# Altium footprint library 8A34001E-000AJG8.PcbLib: 3 footprints
Each footprint in its own frame and in the unit in brackets; x right, y up, seen from the top. Pads: shape width x height; smd on the part's side, far side on the other; paste and mask are expansions set on the pad; w line width, h text height; cw(c..) or ccw(c..) is an arc to the next point about the centre after c.
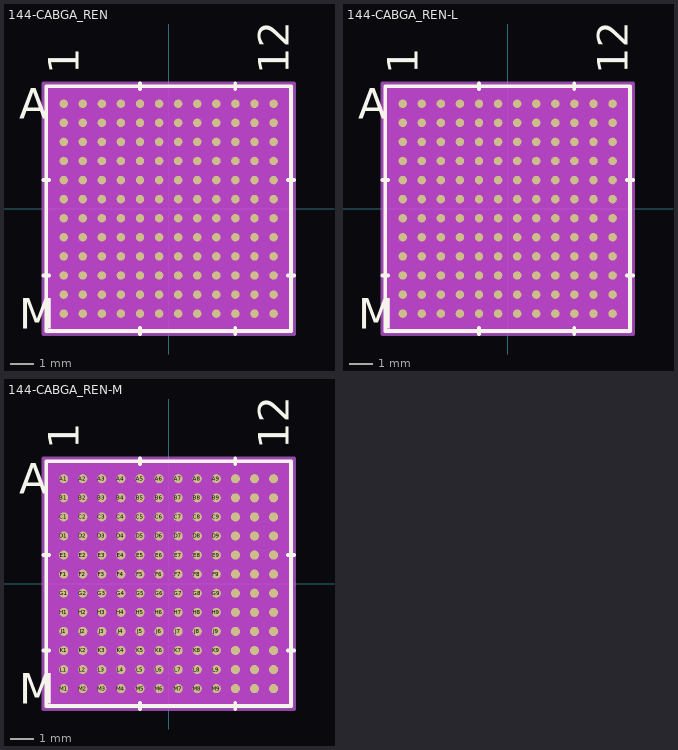
[diagram p0: the footprints below, top view; thin cyan lines are the x and y axes]

## 144-CABGA_REN [mil]
pads (144):
  round 14 smd paste+0 mask+0: A1(-173.23,173.25) A2(-141.73,173.25) A3(-110.24,173.25) A4(-78.74,173.25) A5(-47.24,173.25) A6(-15.75,173.25) A7(15.75,173.25) A8(47.24,173.25) A9(78.74,173.25) A10(110.24,173.25) A11(141.73,173.25) A12(173.23,173.25) B1(-173.23,141.75) B2(-141.73,141.75) B3(-110.24,141.75) B4(-78.74,141.75) B5(-47.24,141.75) B6(-15.75,141.75) B7(15.75,141.75) B8(47.24,141.75) B9(78.74,141.75) B10(110.24,141.75) B11(141.73,141.75) B12(173.23,141.75) C1(-173.23,110.25) C2(-141.73,110.25) C3(-110.24,110.25) C4(-78.74,110.25) C5(-47.24,110.25) C6(-15.75,110.25) C7(15.75,110.25) C8(47.24,110.25) C9(78.74,110.25) C10(110.24,110.25) C11(141.73,110.25) C12(173.23,110.25) D1(-173.23,78.75) D2(-141.73,78.75) D3(-110.24,78.75) D4(-78.74,78.75) D5(-47.24,78.75) D6(-15.75,78.75) D7(15.75,78.75) D8(47.24,78.75) D9(78.74,78.75) D10(110.24,78.75) D11(141.73,78.75) D12(173.23,78.75) E1(-173.23,47.25) E2(-141.73,47.25) E3(-110.24,47.25) E4(-78.74,47.25) E5(-47.24,47.25) E6(-15.75,47.25) E7(15.75,47.25) E8(47.24,47.25) E9(78.74,47.25) E10(110.24,47.25) E11(141.73,47.25) E12(173.23,47.25) F1(-173.23,15.75) F2(-141.73,15.75) F3(-110.24,15.75) F4(-78.74,15.75) F5(-47.24,15.75) F6(-15.75,15.75) F7(15.75,15.75) F8(47.24,15.75) F9(78.74,15.75) F10(110.24,15.75) F11(141.73,15.75) F12(173.23,15.75) G1(-173.23,-15.75) G2(-141.73,-15.75) G3(-110.24,-15.75) G4(-78.74,-15.75) G5(-47.24,-15.75) G6(-15.75,-15.75) G7(15.75,-15.75) G8(47.24,-15.75) G9(78.74,-15.75) G10(110.24,-15.75) G11(141.73,-15.75) G12(173.23,-15.75) H1(-173.23,-47.25) H2(-141.73,-47.25) H3(-110.24,-47.25) H4(-78.74,-47.25) H5(-47.24,-47.25) H6(-15.75,-47.25) H7(15.75,-47.25) H8(47.24,-47.25) H9(78.74,-47.25) H10(110.24,-47.25) H11(141.73,-47.25) H12(173.23,-47.25) J1(-173.23,-78.75) J2(-141.73,-78.75) J3(-110.24,-78.75) J4(-78.74,-78.75) J5(-47.24,-78.75) J6(-15.75,-78.75) J7(15.75,-78.75) J8(47.24,-78.75) J9(78.74,-78.75) J10(110.24,-78.75) J11(141.73,-78.75) J12(173.23,-78.75) K1(-173.23,-110.25) K2(-141.73,-110.25) K3(-110.24,-110.25) K4(-78.74,-110.25) K5(-47.24,-110.25) K6(-15.75,-110.25) K7(15.75,-110.25) K8(47.24,-110.25) K9(78.74,-110.25) K10(110.24,-110.25) K11(141.73,-110.25) K12(173.23,-110.25) L1(-173.23,-141.75) L2(-141.73,-141.75) L3(-110.24,-141.75) L4(-78.74,-141.75) L5(-47.24,-141.75) L6(-15.75,-141.75) L7(15.75,-141.75) L8(47.24,-141.75) L9(78.74,-141.75) L10(110.24,-141.75) L11(141.73,-141.75) L12(173.23,-141.75) M1(-173.23,-173.25) M2(-141.73,-173.25) M3(-110.24,-173.25) M4(-78.74,-173.25) M5(-47.24,-173.25) M6(-15.75,-173.25) M7(15.75,-173.25) M8(47.24,-173.25) M9(78.74,-173.25) M10(110.24,-173.25) M11(141.73,-173.25) M12(173.23,-173.25)
Top Overlay:
  lines w6: -207,-110.25 -197,-110.25 ; -207,47.25 -197,47.25 ; -47.24,-207 -47.24,-197 ; -47.24,197 -47.24,207 ; 110.24,-207 110.24,-197 ; 110.24,197 110.24,207 ; 197,-110.25 207,-110.25 ; 197,47.25 207,47.25 ; -202,-202 202,-202 202,202 -202,202 -202,-202
  text "A" at -247,148.25 h50
  text "M" at -247,-198.25 h50
  text "1" at -148.23,222 h50
  text "12" at 198.23,222 h50
Bottom Overlay:
  text "A" at -222,148.25 h50
  text "M" at -222,-198.25 h50
  text "1" at -198.23,222 h50
  text "12" at 148.23,222 h50
Keep-Out Layer:
  region: -206.48,-206.5 -206.48,206.5 206.48,206.5 206.48,-206.5
Mechanical 13:
  lines w1: -197,181.25 -181.25,197 ; -197,-197 197,-197 197,197 -197,197 -197,-197
  text "A" at -247,148.25 h50
  text "M" at -247,-198.25 h50
  text "1" at -148.23,222 h50
  text "12" at 198.23,222 h50
Mechanical 15:
  region: 207,-207 -207,-207 -207,207 207,207
  lines w6: -207,-207 -207,207 207,207 207,-207 -207,-207
3D body "144-CABGA_REN.step": height 47.09, standoff 0.02, extent -197.01,-197.01 197.01,197.01

## 144-CABGA_REN-L [mil]
pads (144):
  round 14 smd paste+0 mask+0: A1(-173.23,173.25) A2(-141.73,173.25) A3(-110.24,173.25) A4(-78.74,173.25) A5(-47.24,173.25) A6(-15.75,173.25) A7(15.75,173.25) A8(47.24,173.25) A9(78.74,173.25) A10(110.24,173.25) A11(141.73,173.25) A12(173.23,173.25) B1(-173.23,141.75) B2(-141.73,141.75) B3(-110.24,141.75) B4(-78.74,141.75) B5(-47.24,141.75) B6(-15.75,141.75) B7(15.75,141.75) B8(47.24,141.75) B9(78.74,141.75) B10(110.24,141.75) B11(141.73,141.75) B12(173.23,141.75) C1(-173.23,110.25) C2(-141.73,110.25) C3(-110.24,110.25) C4(-78.74,110.25) C5(-47.24,110.25) C6(-15.75,110.25) C7(15.75,110.25) C8(47.24,110.25) C9(78.74,110.25) C10(110.24,110.25) C11(141.73,110.25) C12(173.23,110.25) D1(-173.23,78.75) D2(-141.73,78.75) D3(-110.24,78.75) D4(-78.74,78.75) D5(-47.24,78.75) D6(-15.75,78.75) D7(15.75,78.75) D8(47.24,78.75) D9(78.74,78.75) D10(110.24,78.75) D11(141.73,78.75) D12(173.23,78.75) E1(-173.23,47.25) E2(-141.73,47.25) E3(-110.24,47.25) E4(-78.74,47.25) E5(-47.24,47.25) E6(-15.75,47.25) E7(15.75,47.25) E8(47.24,47.25) E9(78.74,47.25) E10(110.24,47.25) E11(141.73,47.25) E12(173.23,47.25) F1(-173.23,15.75) F2(-141.73,15.75) F3(-110.24,15.75) F4(-78.74,15.75) F5(-47.24,15.75) F6(-15.75,15.75) F7(15.75,15.75) F8(47.24,15.75) F9(78.74,15.75) F10(110.24,15.75) F11(141.73,15.75) F12(173.23,15.75) G1(-173.23,-15.75) G2(-141.73,-15.75) G3(-110.24,-15.75) G4(-78.74,-15.75) G5(-47.24,-15.75) G6(-15.75,-15.75) G7(15.75,-15.75) G8(47.24,-15.75) G9(78.74,-15.75) G10(110.24,-15.75) G11(141.73,-15.75) G12(173.23,-15.75) H1(-173.23,-47.25) H2(-141.73,-47.25) H3(-110.24,-47.25) H4(-78.74,-47.25) H5(-47.24,-47.25) H6(-15.75,-47.25) H7(15.75,-47.25) H8(47.24,-47.25) H9(78.74,-47.25) H10(110.24,-47.25) H11(141.73,-47.25) H12(173.23,-47.25) J1(-173.23,-78.75) J2(-141.73,-78.75) J3(-110.24,-78.75) J4(-78.74,-78.75) J5(-47.24,-78.75) J6(-15.75,-78.75) J7(15.75,-78.75) J8(47.24,-78.75) J9(78.74,-78.75) J10(110.24,-78.75) J11(141.73,-78.75) J12(173.23,-78.75) K1(-173.23,-110.25) K2(-141.73,-110.25) K3(-110.24,-110.25) K4(-78.74,-110.25) K5(-47.24,-110.25) K6(-15.75,-110.25) K7(15.75,-110.25) K8(47.24,-110.25) K9(78.74,-110.25) K10(110.24,-110.25) K11(141.73,-110.25) K12(173.23,-110.25) L1(-173.23,-141.75) L2(-141.73,-141.75) L3(-110.24,-141.75) L4(-78.74,-141.75) L5(-47.24,-141.75) L6(-15.75,-141.75) L7(15.75,-141.75) L8(47.24,-141.75) L9(78.74,-141.75) L10(110.24,-141.75) L11(141.73,-141.75) L12(173.23,-141.75) M1(-173.23,-173.25) M2(-141.73,-173.25) M3(-110.24,-173.25) M4(-78.74,-173.25) M5(-47.24,-173.25) M6(-15.75,-173.25) M7(15.75,-173.25) M8(47.24,-173.25) M9(78.74,-173.25) M10(110.24,-173.25) M11(141.73,-173.25) M12(173.23,-173.25)
Top Overlay:
  lines w6: -207,-110.25 -197,-110.25 ; -207,47.25 -197,47.25 ; -47.24,-207 -47.24,-197 ; -47.24,197 -47.24,207 ; 110.24,-207 110.24,-197 ; 110.24,197 110.24,207 ; 197,-110.25 207,-110.25 ; 197,47.25 207,47.25 ; -202,-202 202,-202 202,202 -202,202 -202,-202
  text "A" at -247,148.25 h50
  text "M" at -247,-198.25 h50
  text "1" at -148.23,222 h50
  text "12" at 198.23,222 h50
Bottom Overlay:
  text "A" at -222,148.25 h50
  text "M" at -222,-198.25 h50
  text "1" at -198.23,222 h50
  text "12" at 148.23,222 h50
Keep-Out Layer:
  region: -206.48,-206.5 -206.48,206.5 206.48,206.5 206.48,-206.5
Mechanical 13:
  lines w1: -197,181.25 -181.25,197 ; -197,-197 197,-197 197,197 -197,197 -197,-197
  text "A" at -247,148.25 h50
  text "M" at -247,-198.25 h50
  text "1" at -148.23,222 h50
  text "12" at 198.23,222 h50
Mechanical 15:
  region: 207,-207 -207,-207 -207,207 207,207
  lines w6: -207,-207 -207,207 207,207 207,-207 -207,-207
3D body "144-CABGA_REN.step": height 47.09, standoff 0.02, extent -197.01,-197.01 197.01,197.01

## 144-CABGA_REN-M [mil]
pads (144):
  round 15 smd paste+0 mask+0: A1(-173.23,173.25) A2(-141.73,173.25) A3(-110.24,173.25) A4(-78.74,173.25) A5(-47.24,173.25) A6(-15.75,173.25) A7(15.75,173.25) A8(47.24,173.25) A9(78.74,173.25) A10(110.24,173.25) A11(141.73,173.25) A12(173.23,173.25) B1(-173.23,141.75) B2(-141.73,141.75) B3(-110.24,141.75) B4(-78.74,141.75) B5(-47.24,141.75) B6(-15.75,141.75) B7(15.75,141.75) B8(47.24,141.75) B9(78.74,141.75) B10(110.24,141.75) B11(141.73,141.75) B12(173.23,141.75) C1(-173.23,110.25) C2(-141.73,110.25) C3(-110.24,110.25) C4(-78.74,110.25) C5(-47.24,110.25) C6(-15.75,110.25) C7(15.75,110.25) C8(47.24,110.25) C9(78.74,110.25) C10(110.24,110.25) C11(141.73,110.25) C12(173.23,110.25) D1(-173.23,78.75) D2(-141.73,78.75) D3(-110.24,78.75) D4(-78.74,78.75) D5(-47.24,78.75) D6(-15.75,78.75) D7(15.75,78.75) D8(47.24,78.75) D9(78.74,78.75) D10(110.24,78.75) D11(141.73,78.75) D12(173.23,78.75) E1(-173.23,47.25) E2(-141.73,47.25) E3(-110.24,47.25) E4(-78.74,47.25) E5(-47.24,47.25) E6(-15.75,47.25) E7(15.75,47.25) E8(47.24,47.25) E9(78.74,47.25) E10(110.24,47.25) E11(141.73,47.25) E12(173.23,47.25) F1(-173.23,15.75) F2(-141.73,15.75) F3(-110.24,15.75) F4(-78.74,15.75) F5(-47.24,15.75) F6(-15.75,15.75) F7(15.75,15.75) F8(47.24,15.75) F9(78.74,15.75) F10(110.24,15.75) F11(141.73,15.75) F12(173.23,15.75) G1(-173.23,-15.75) G2(-141.73,-15.75) G3(-110.24,-15.75) G4(-78.74,-15.75) G5(-47.24,-15.75) G6(-15.75,-15.75) G7(15.75,-15.75) G8(47.24,-15.75) G9(78.74,-15.75) G10(110.24,-15.75) G11(141.73,-15.75) G12(173.23,-15.75) H1(-173.23,-47.25) H2(-141.73,-47.25) H3(-110.24,-47.25) H4(-78.74,-47.25) H5(-47.24,-47.25) H6(-15.75,-47.25) H7(15.75,-47.25) H8(47.24,-47.25) H9(78.74,-47.25) H10(110.24,-47.25) H11(141.73,-47.25) H12(173.23,-47.25) J1(-173.23,-78.75) J2(-141.73,-78.75) J3(-110.24,-78.75) J4(-78.74,-78.75) J5(-47.24,-78.75) J6(-15.75,-78.75) J7(15.75,-78.75) J8(47.24,-78.75) J9(78.74,-78.75) J10(110.24,-78.75) J11(141.73,-78.75) J12(173.23,-78.75) K1(-173.23,-110.25) K2(-141.73,-110.25) K3(-110.24,-110.25) K4(-78.74,-110.25) K5(-47.24,-110.25) K6(-15.75,-110.25) K7(15.75,-110.25) K8(47.24,-110.25) K9(78.74,-110.25) K10(110.24,-110.25) K11(141.73,-110.25) K12(173.23,-110.25) L1(-173.23,-141.75) L2(-141.73,-141.75) L3(-110.24,-141.75) L4(-78.74,-141.75) L5(-47.24,-141.75) L6(-15.75,-141.75) L7(15.75,-141.75) L8(47.24,-141.75) L9(78.74,-141.75) L10(110.24,-141.75) L11(141.73,-141.75) L12(173.23,-141.75) M1(-173.23,-173.25) M2(-141.73,-173.25) M3(-110.24,-173.25) M4(-78.74,-173.25) M5(-47.24,-173.25) M6(-15.75,-173.25) M7(15.75,-173.25) M8(47.24,-173.25) M9(78.74,-173.25) M10(110.24,-173.25) M11(141.73,-173.25) M12(173.23,-173.25)
Top Overlay:
  lines w6: -207,-110.25 -197,-110.25 ; -207,47.25 -197,47.25 ; -47.24,-207 -47.24,-197 ; -47.24,197 -47.24,207 ; 110.24,-207 110.24,-197 ; 110.24,197 110.24,207 ; 197,-110.25 207,-110.25 ; 197,47.25 207,47.25 ; -202,-202 202,-202 202,202 -202,202 -202,-202
  text "A" at -247,148.25 h50
  text "M" at -247,-198.25 h50
  text "1" at -148.23,222 h50
  text "12" at 198.23,222 h50
Bottom Overlay:
  text "A" at -222,148.25 h50
  text "M" at -222,-198.25 h50
  text "1" at -198.23,222 h50
  text "12" at 148.23,222 h50
Keep-Out Layer:
  region: -206.48,-206.5 -206.48,206.5 206.48,206.5 206.48,-206.5
Mechanical 13:
  lines w1: -197,181.25 -181.25,197 ; -197,-197 197,-197 197,197 -197,197 -197,-197
  text "A" at -247,148.25 h50
  text "M" at -247,-198.25 h50
  text "1" at -148.23,222 h50
  text "12" at 198.23,222 h50
Mechanical 15:
  region: 207,-207 -207,-207 -207,207 207,207
  lines w6: -207,-207 -207,207 207,207 207,-207 -207,-207
3D body "144-CABGA_REN.step": height 47.09, standoff 0.02, extent -197.01,-197.01 197.01,197.01